# Altium schematic symbol library DRV8848.Schlib: 1 symbol
Pins are listed as number, name and electrical type; pins without a type are passive.

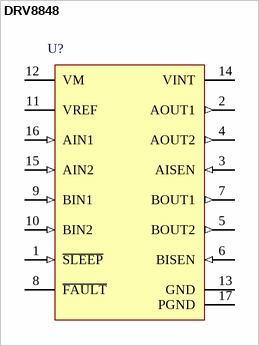
[diagram p0: symbol DRV8848]

## DRV8848
designator U?  (value not drawn)
Quad Half-Bridge Motor Driver, DRV8488
pins: 1 ~{SLEEP} (in), 2 AOUT1 (out), 3 AISEN (in), 4 AOUT2 (out), 5 BOUT2 (out), 6 BISEN (in), 7 BOUT1 (out), 8 ~{FAULT} (oc), 9 BIN1 (in), 10 BIN2 (in), 11 VREF, 12 VM (power), 13 GND (power), 14 VINT, 15 AIN2 (in), 16 AIN1 (in), 17 PGND (power)